# Altium footprint library VH396P.PcbLib: 9 footprints
Each footprint in its own frame and in the unit in brackets; x right, y up, seen from the top. Pads: shape width x height; smd on the part's side, far side on the other; paste and mask are expansions set on the pad; w line width, h text height; cw(c..) or ccw(c..) is an arc to the next point about the centre after c.
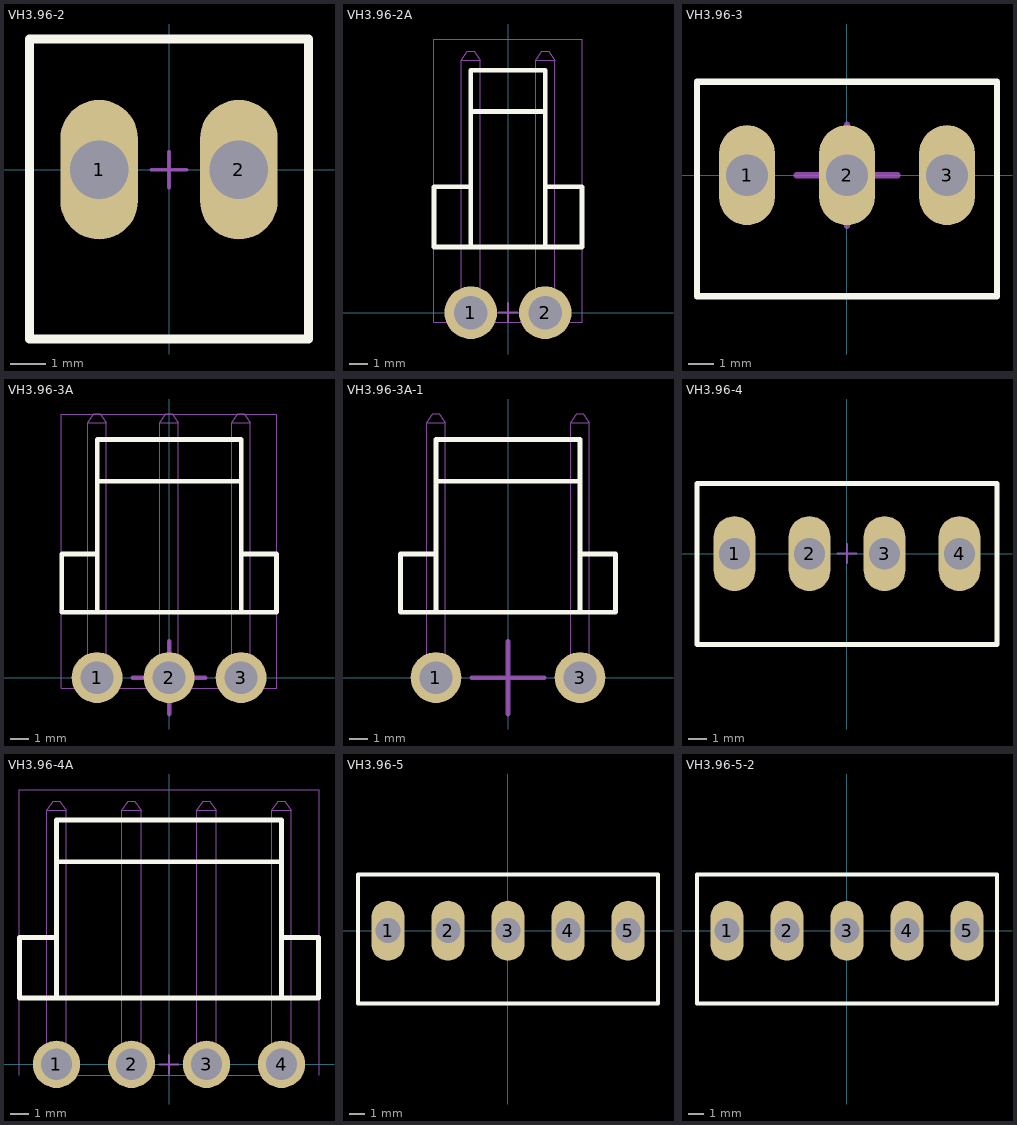
[diagram p0: the footprints below, top view; thin cyan lines are the x and y axes]

## VH3.96-2 [mm] "VH3.96座"
height 15
pads (2):
  oval 2.2x3.96 hole 1.65: 1(-1.98,0) 2(1.98,0)
Top Overlay:
  lines w0.254: -3.96,-4.8 3.96,-4.8 3.96,3.705 -3.96,3.705 -3.96,-4.8
Mechanical 13:
  lines w0.05: -3.96,-4.8 3.96,-4.8 3.96,3.705 -3.96,3.705 -3.96,-4.8
Mechanical 15:
  lines w0.102: -0.508,0 0,0 ; 0,-0.508 0,0 ; 0,0.508 0,0 ; 0.508,0 0,0
3D body: height 11, standoff -3.6, extent -3.96,-4.8 3.96,3.705

## VH3.96-2A [mm] "VH3.96卧式座"
height 8.5
pads (2):
  round 2.8 hole 1.8: 1(-1.98,0) 2(1.98,0)
Top Overlay:
  lines w0.254: -1.98,3.5 -1.98,12.9 1.98,12.9 1.98,3.5 ; -1.98,6.7 -3.93,6.7 -3.93,3.5 3.93,3.5 3.93,6.7 1.98,6.7 ; -1.98,10.7 1.98,10.7
Mechanical 13:
  lines w0.05: -3.96,-0.513 3.96,-0.513 3.96,14.557 -3.96,14.557 -3.96,-0.513
Mechanical 15:
  lines w0.05: -2.155,-0.183 -1.797,-0.183 ; -1.797,0.175 -2.155,0.175 ; -1.477,0.503 -1.473,0.503 ; 1.473,0.503 1.477,0.503 ; 1.797,0.175 2.155,0.175 ; 2.155,-0.183 1.797,-0.183 ; -2.487,-0.507 -1.473,-0.507 ; -2.487,-0.507 -2.487,13.414 ; -2.487,-0.507 -2.155,-0.175 -2.155,0.175 ; -2.487,13.414 -2.159,13.9 -1.801,13.9 -1.473,13.414 ; -2.487,13.414 -1.473,13.414 ; -2.155,0.175 -2.487,0.507 -1.494,0.507 -1.797,0.204 -1.797,-0.183 ; -1.797,-0.183 -1.473,-0.507 ; -1.473,-0.507 -1.473,13.414 ; 1.473,-0.507 1.797,-0.183 ; 1.473,-0.507 1.473,13.414 ; 1.473,-0.507 2.487,-0.507 ; 1.473,13.414 2.487,13.414 ; 1.473,13.414 1.801,13.9 2.159,13.9 2.487,13.414 ; 1.797,-0.183 1.797,0.204 1.494,0.507 2.487,0.507 2.155,0.175 ; 2.155,0.175 2.155,-0.175 2.487,-0.507 ; 2.487,-0.507 2.487,13.414
  lines w0.102: -0.508,0 0,0 ; 0,-0.508 0,0 ; 0,0.508 0,0 ; 0.508,0 0,0
3D body: height 8.55, standoff -3.65, extent -3.96,-0.513 3.96,14.557

## VH3.96-3 [mm] "VH3.96座"
height 15
pads (3):
  oval 2.2x3.96 hole 1.65: 1(-3.96,0) 2(0,0) 3(3.96,0)
Top Overlay:
  lines w0.254: -5.94,-4.8 5.94,-4.8 5.94,3.705 -5.94,3.705 -5.94,-4.8
Mechanical 13:
  lines w0.05: -5.94,-4.8 5.94,-4.8 5.94,3.705 -5.94,3.705 -5.94,-4.8
Mechanical 15:
  lines w0.254: -2,0 0,0 ; 0,-2 0,0 ; 0,2 0,0 ; 2,0 0,0
3D body: height 11.1, standoff -3.5, extent -5.94,-4.8 5.94,3.705

## VH3.96-3A [mm] "VH3.96座"
height 8.5
pads (3):
  round 2.8 hole 1.8: 1(-3.96,0) 2(0,0) 3(3.96,0)
Top Overlay:
  lines w0.254: -3.96,3.6 -3.96,13.1 3.96,13.1 3.96,3.6 ; -3.96,6.8 -5.91,6.8 -5.91,3.6 5.91,3.6 5.91,6.8 3.96,6.8 ; -3.96,10.8 3.96,10.8
Mechanical 13:
  lines w0.05: -5.944,-0.584 5.936,-0.584 5.936,14.486 -5.944,14.486 -5.944,-0.584
Mechanical 15:
  lines w0.05: -4.135,-0.183 -3.777,-0.183 ; -3.777,0.175 -4.135,0.175 ; -3.457,0.503 -3.453,0.503 ; -0.507,0.503 -0.503,0.503 ; -0.183,0.175 0.175,0.175 ; 0.175,-0.183 -0.183,-0.183 ; 3.453,0.503 3.457,0.503 ; 3.777,0.175 4.135,0.175 ; 4.135,-0.183 3.777,-0.183 ; -4.467,-0.507 -4.135,-0.175 -4.135,0.175 ; -4.467,-0.507 -4.467,14.014 ; -4.467,-0.507 -3.453,-0.507 ; -4.467,14.014 -3.453,14.014 ; -4.467,14.014 -4.139,14.5 -3.781,14.5 -3.453,14.014 ; -4.135,0.175 -4.467,0.507 -3.474,0.507 -3.777,0.204 -3.777,-0.183 ; -3.777,-0.183 -3.453,-0.507 ; -3.453,-0.507 -3.453,14.014 ; -0.507,-0.507 0.507,-0.507 ; -0.507,-0.507 -0.507,14.014 ; -0.507,-0.507 -0.183,-0.183 ; -0.507,14.014 -0.179,14.5 0.179,14.5 0.507,14.014 ; -0.507,14.014 0.507,14.014 ; -0.183,-0.183 -0.183,0.204 -0.486,0.507 0.507,0.507 0.175,0.175 ; 0.175,0.175 0.175,-0.175 0.507,-0.507 ; 0.507,-0.507 0.507,14.014 ; 3.453,-0.507 3.777,-0.183 ; 3.453,-0.507 3.453,14.014 ; 3.453,-0.507 4.467,-0.507 ; 3.453,14.014 4.467,14.014 ; 3.453,14.014 3.781,14.5 4.139,14.5 4.467,14.014 ; 3.777,-0.183 3.777,0.204 3.474,0.507 4.467,0.507 4.135,0.175 ; 4.135,0.175 4.135,-0.175 4.467,-0.507 ; 4.467,-0.507 4.467,14.014
  lines w0.254: -2,0 0,0 ; 0,-2 0,0 ; 0,2 0,0 ; 2,0 0,0
3D body: height 8.75, standoff -3.45, extent -5.944,-0.584 5.936,14.486

## VH3.96-3A-1 [mm] "VH3.96座"
height 8.5
pads (2):
  round 2.8 hole 1.8: 1(-3.96,0) 3(3.96,0)
Top Overlay:
  lines w0.254: -3.96,3.6 -3.96,13.1 3.96,13.1 3.96,3.6 ; -3.96,6.8 -5.91,6.8 -5.91,3.6 5.91,3.6 5.91,6.8 3.96,6.8 ; -3.96,10.8 3.96,10.8
Mechanical 15:
  lines w0.05: -4.135,-0.183 -3.777,-0.183 ; -3.777,0.175 -4.135,0.175 ; -3.457,0.503 -3.453,0.503 ; 3.453,0.503 3.457,0.503 ; 3.777,0.175 4.135,0.175 ; 4.135,-0.183 3.777,-0.183 ; -4.467,-0.507 -3.453,-0.507 ; -4.467,-0.507 -4.467,14.014 ; -4.467,-0.507 -4.135,-0.175 -4.135,0.175 ; -4.467,14.014 -4.139,14.5 -3.781,14.5 -3.453,14.014 ; -4.467,14.014 -3.453,14.014 ; -4.135,0.175 -4.467,0.507 -3.474,0.507 -3.777,0.204 -3.777,-0.183 ; -3.777,-0.183 -3.453,-0.507 ; -3.453,-0.507 -3.453,14.014 ; 3.453,-0.507 4.467,-0.507 ; 3.453,-0.507 3.453,14.014 ; 3.453,-0.507 3.777,-0.183 ; 3.453,14.014 3.781,14.5 4.139,14.5 4.467,14.014 ; 3.453,14.014 4.467,14.014 ; 3.777,-0.183 3.777,0.204 3.474,0.507 4.467,0.507 4.135,0.175 ; 4.135,0.175 4.135,-0.175 4.467,-0.507 ; 4.467,-0.507 4.467,14.014
  lines w0.254: -2,0 0,0 ; 0,-2 0,0 ; 0,2 0,0 ; 2,0 0,0
3D body: height 8.75, standoff -3.45, extent -5.94,-0.686 5.94,14.384

## VH3.96-4 [mm] "VH3.96座"
height 15
pads (4):
  oval 2.2x3.96 hole 1.65: 1(-5.94,0) 2(-1.98,0) 3(1.98,0) 4(5.94,0)
Top Overlay:
  lines w0.254: -7.92,-4.8 -7.92,3.705 7.92,3.705 7.92,-4.8 -7.92,-4.8
Mechanical 13:
  lines w0.05: -7.92,-4.8 7.92,-4.8 7.92,3.705 -7.92,3.705 -7.92,-4.8
Mechanical 15:
  lines w0.102: -0.508,0 0,0 ; 0,-0.508 0,0 ; 0,0.508 0,0 ; 0.508,0 0,0
3D body: height 11.1, standoff -3.5, extent -7.92,-4.8 7.92,3.705

## VH3.96-4A [mm] "VH3.96座"
height 8.5
pads (4):
  round 2.5 hole 1.65: 1(-5.94,0) 2(-1.98,0) 3(1.98,0) 4(5.94,0)
Top Overlay:
  lines w0.254: -5.94,3.5 -5.94,12.9 5.94,12.9 5.94,3.5 ; -5.94,6.7 -7.89,6.7 -7.89,3.5 7.89,3.5 7.89,6.7 5.94,6.7 ; -5.94,10.7 5.94,10.7
Mechanical 13:
  lines w0.05: -7.92,-0.584 -7.92,14.486 7.92,14.486 7.92,-0.584 ; -5.944,-0.584 5.936,-0.584
Mechanical 15:
  lines w0.05: -6.115,-0.183 -5.757,-0.183 ; -5.757,0.175 -6.115,0.175 ; -5.437,0.503 -5.433,0.503 ; -2.487,0.503 -2.483,0.503 ; -2.163,0.175 -1.805,0.175 ; -1.805,-0.183 -2.163,-0.183 ; 1.473,0.503 1.477,0.503 ; 1.797,0.175 2.155,0.175 ; 2.155,-0.183 1.797,-0.183 ; 5.433,0.503 5.437,0.503 ; 5.757,0.175 6.115,0.175 ; 6.115,-0.183 5.757,-0.183 ; -6.447,-0.507 -6.115,-0.175 -6.115,0.175 ; -6.447,-0.507 -6.447,13.414 ; -6.447,-0.507 -5.433,-0.507 ; -6.447,13.414 -5.433,13.414 ; -6.447,13.414 -6.119,13.9 -5.761,13.9 -5.433,13.414 ; -6.115,0.175 -6.447,0.507 -5.454,0.507 -5.757,0.204 -5.757,-0.183 ; -5.757,-0.183 -5.433,-0.507 ; -5.433,-0.507 -5.433,13.414 ; -2.487,-0.507 -1.473,-0.507 ; -2.487,-0.507 -2.487,13.414 ; -2.487,-0.507 -2.163,-0.183 ; -2.487,13.414 -2.159,13.9 -1.801,13.9 -1.473,13.414 ; -2.487,13.414 -1.473,13.414 ; -2.163,-0.183 -2.163,0.204 -2.466,0.507 -1.473,0.507 -1.805,0.175 ; -1.805,0.175 -1.805,-0.175 -1.473,-0.507 ; -1.473,-0.507 -1.473,13.414 ; 1.473,-0.507 1.797,-0.183 ; 1.473,-0.507 1.473,13.414 ; 1.473,-0.507 2.487,-0.507 ; 1.473,13.414 2.487,13.414 ; 1.473,13.414 1.801,13.9 2.159,13.9 2.487,13.414 ; 1.797,-0.183 1.797,0.204 1.494,0.507 2.487,0.507 2.155,0.175 ; 2.155,0.175 2.155,-0.175 2.487,-0.507 ; 2.487,-0.507 2.487,13.414 ; 5.433,-0.507 6.447,-0.507 ; 5.433,-0.507 5.433,13.414 ; 5.433,-0.507 5.757,-0.183 ; 5.433,13.414 5.761,13.9 6.119,13.9 6.447,13.414 ; 5.433,13.414 6.447,13.414 ; 5.757,-0.183 5.757,0.204 5.454,0.507 6.447,0.507 6.115,0.175 ; 6.115,0.175 6.115,-0.175 6.447,-0.507 ; 6.447,-0.507 6.447,13.414
  lines w0.102: -0.508,0 0,0 ; 0,-0.508 0,0 ; 0,0.508 0,0 ; 0.508,0 0,0
3D body: height 8.75, standoff -3.45, extent -7.92,-0.584 7.92,14.486

## VH3.96-5 [mm] "VH3.96座"
height 15
pads (5):
  oval 2.2x3.96 hole 1.65: 1(-7.92,0) 2(-3.96,0) 3(0,0) 4(3.96,0) 5(7.92,0)
Top Overlay:
  lines w0.254: -9.9,-4.8 9.9,-4.8 9.9,3.705 -9.9,3.705 -9.9,-4.8
Mechanical 13:
  lines w0.05: -9.9,-4.8 9.9,-4.8 9.9,3.705 -9.9,3.705 -9.9,-4.8
Mechanical 15:
  lines w0.102: -0.508,0 0,0 ; 0,-0.508 0,0 ; 0,0.508 0,0 ; 0.508,0 0,0
3D body: height 11.1, standoff -3.5, extent -9.9,-4.8 9.9,3.705

## VH3.96-5-2 [mm] "VH3.96座"
height 15
pads (5):
  oval 2.2x3.96 hole 1.65: 1(-7.92,0) 2(-3.96,0) 3(0,0) 4(3.96,0) 5(7.92,0)
Top Overlay:
  lines w0.254: -9.9,-4.8 9.9,-4.8 9.9,3.705 -9.9,3.705 -9.9,-4.8
Mechanical 13:
  lines w0.05: -9.9,-4.8 9.9,-4.8 9.9,3.705 -9.9,3.705 -9.9,-4.8
Mechanical 15:
  lines w0.102: -0.508,0 0,0 ; 0,-0.508 0,0 ; 0,0.508 0,0 ; 0.508,0 0,0
3D body: height 11.1, standoff -3.5, extent -9.9,-4.8 9.9,3.705